# EAGLE library part STONYMAN (library senseye)
Centeye Stonyman imager chip
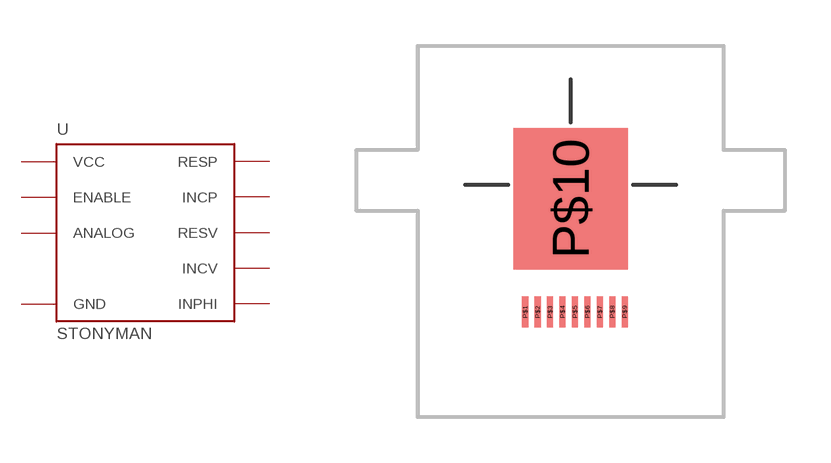
[diagram p6: symbol with the pads of STONYMAN_DEFAULT_LENS; footprint STONYMAN_DEFAULT_LENS]

Designator prefix U

## STONYMANDEFAULT_LENS_MOUNT  [STONYMAN_DEFAULT_LENS]
P$1  GND  pwr
P$2  VCC  pwr
P$3  RESP  in
P$4  INCP  in
P$5  RESV  in
P$6  INCV  in
P$7  INPHI  in
P$8  ANALOG  out
P$9  ENABLE  in
P$10  GND  pwr

## Footprint STONYMAN_DEFAULT_LENS (pad centres in mm)
smd 0.2 x 1: P$1 -1.487,-3.707; P$2 -1.08,-3.707; P$3 -0.673,-3.707; P$4 -0.266,-3.707; P$5 0.141,-3.707; P$6 0.548,-3.707; P$7 0.955,-3.707; P$8 1.362,-3.707; P$9 1.769,-3.707
smd 3.73 x 4.63: P$10 0,0